# Altium schematic symbol library 2 Pin 100 mil Right Angle Header - Through Hole.SchLib: 1 symbol
Pins are listed as number, name and electrical type; pins without a type are passive.

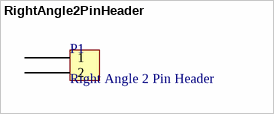
[diagram p0: symbol RightAngle2PinHeader]

## RightAngle2PinHeader
designator P1, comment Right Angle 2 Pin Header
footprint RightAnglePinHeader
pins: 1, 2